# EAGLE library part 43160-*03 (library con-molex-models)
SDA-43160 Connector Source: http://www.molex.com/pdm_docs/sd/431601306_sd.pdf
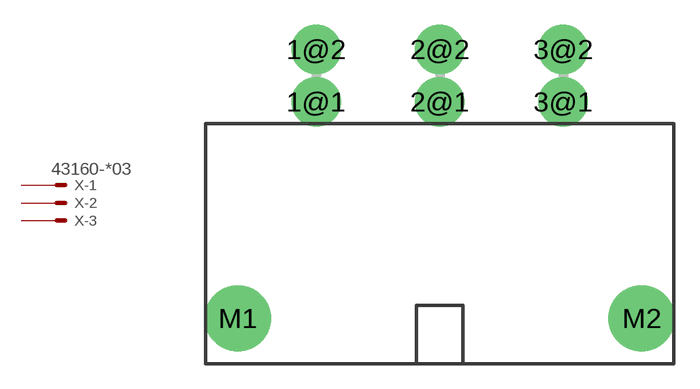
[diagram p184: symbol with the pads of 43160-XX03; footprint 43160-XX03]

Designator prefix X; gates -1=MV2 -2=M2 -3=M2

## 43160-1103 (MF: MOLEX; OC_FARNELL: unknown; OC_NEWARK: unknown), 43160-1203 (MF: MOLEX; OC_FARNELL: unknown; OC_NEWARK: unknown), 43160-1303 (MF: MOLEX; MPN: 43160-1303; OC_FARNELL: unknown; OC_NEWARK: 92M1481), 43160-1403 (MF: MOLEX; OC_FARNELL: unknown; OC_NEWARK: unknown), 43160-3103 (MF: WALDOM/MOLEX; MPN: 43160-3103; OC_FARNELL: 3293040; OC_NEWARK: 54H0265), 43160-3203 (MF: MOLEX; OC_FARNELL: unknown; OC_NEWARK: unknown), 43160-5103 (MF: MOLEX; MPN: 43160-5103; OC_FARNELL: unknown; OC_NEWARK: 92M1494), 43160-5203 (MF: MOLEX; OC_FARNELL: unknown; OC_NEWARK: unknown), 43160-5303 (MF: MOLEX; MPN: 43160-5303; OC_FARNELL: unknown; OC_NEWARK: 92M1499), 43160-5403 (MF: MOLEX; OC_FARNELL: unknown; OC_NEWARK: unknown), 43160-7303 (MF: MOLEX; MPN: 43160-7303; OC_FARNELL: unknown; OC_NEWARK: 92M1508), 43160-7403 (MF: MOLEX; OC_FARNELL: unknown; OC_NEWARK: unknown)  [43160-XX03]
1@1  -1:S  pas
1@2  -1:S  pas
2@1  -2:S  pas
2@2  -2:S  pas
3@1  -3:S  pas
3@2  -3:S  pas

## Footprint 43160-XX03 (pad centres in mm)
7.50mm Pitch Sabre™ Header, Right Angle, 3 Circuits, Glow Wire Capable, PCB Thickness 3.20mm, with Board Lock Datasheet <http://www.molex.com/pdm_docs/sd/431607303_sd.pdf>
drill 1.8 pad 3: 1@1 -7.49,0; 1@2 -7.49,3.18; 2@1 0,0; 2@2 0,3.18; 3@1 7.49,0; 3@2 7.49,3.18
drill 3 pad 3.4: M1 -12.24,-13.13; M2 12.24,-13.13